# EAGLE library part ER-OLED0.96-2 (library intelliDesk)
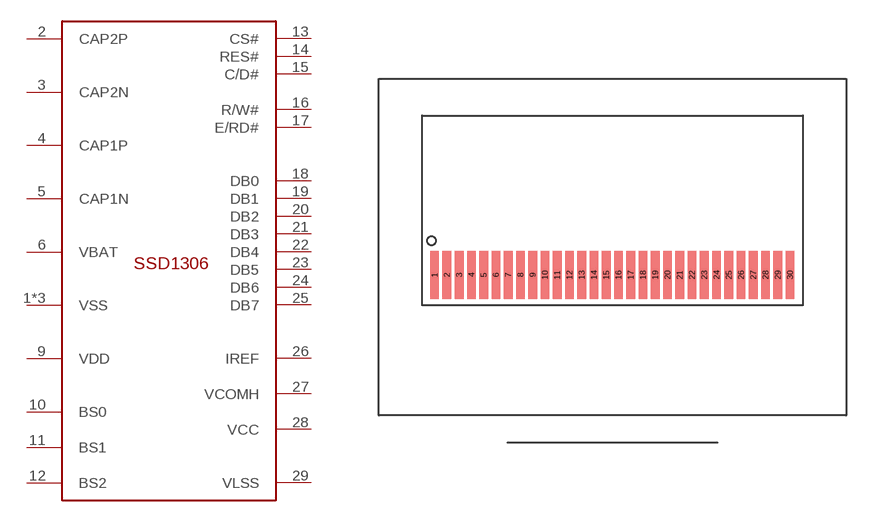
[diagram p1: symbol with the pads of ER-OLED0.96-2; footprint ER-OLED0.96-2]

Designator prefix -

## ER-OLED0.96-2  [ER-OLED0.96-2]
1  VSS  pwr
2  CAP2P  pwr
3  CAP2N  pwr
4  CAP1P  pwr
5  CAP1N  pwr
6  VBAT  pwr
8  VSS  pwr
9  VDD  pwr
10  BS0
11  BS1
12  BS2
13  CS#
14  RES#
15  C/D#
16  R/W#
17  E/RD#
18  DB0
19  DB1
20  DB2
21  DB3
22  DB4
23  DB5
24  DB6
25  DB7
26  IREF  pwr
27  VCOMH  pwr
28  VCC  pwr
29  VLSS  pwr
30  VSS  pwr

## Footprint ER-OLED0.96-2 (pad centres in mm)
smd 0.5 x 2.75: 1 0,0; 2 0.7,0; 3 1.4,0; 4 2.1,0; 5 2.8,0; 6 3.5,0; 7 4.2,0; 8 4.9,0; 9 5.6,0; 10 6.3,0; 11 7,0; 12 7.7,0; 13 8.4,0; 14 9.1,0; 15 9.8,0; 16 10.5,0; 17 11.2,0; 18 11.9,0; 19 12.6,0; 20 13.3,0; 21 14,0; 22 14.7,0; 23 15.4,0; 24 16.1,0; 25 16.8,0; 26 17.5,0; 27 18.2,0; 28 18.9,0; 29 19.6,0; 30 20.3,0